# EAGLE library part MAX706R (library maholli)
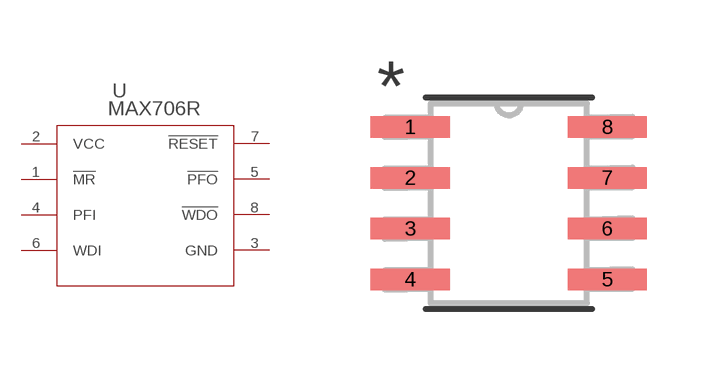
[diagram p27: symbol with the pads of SO8; footprint SO8]

Designator prefix -

## MAX706R  [SO8]
1  !MR  in
2  VCC  pwr
3  GND  pwr
4  PFI  in
5  !PFO  out
6  WDI  nc
7  !RESET  out
8  !WDO  out

## Footprint SO8 (pad centres in mm)
smd 1.981 x 0.533: 1 -2.464,1.905; 2 -2.464,0.635; 3 -2.464,-0.635; 4 -2.464,-1.905; 5 2.464,-1.905; 6 2.464,-0.635; 7 2.464,0.635; 8 2.464,1.905